# Altium integrated library ESQ-126-14-G-D-002.IntLib: 1 symbol
Pins are listed as number, name and electrical type; pins without a type are passive.

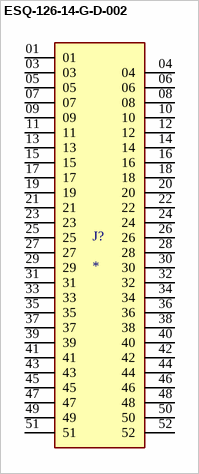
[diagram p0: symbol ESQ-126-14-G-D-002]

## ESQ-126-14-G-D-002
designator J?
MP: ESQ-126-14-G-D-002; Package: None; Price: None; Value: *; Availability: Unavailable
footprint SAMTEC_ESQ-126-14-G-D-002
pins: 01, 03, 04, 05, 06, 07, 08, 09, 10, 11, 12, 13, 14, 15, 16, 17, 18, 19, 20, 21, 22, 23, 24, 25, 26, 27, 28, 29, 30, 31, 32, 33, 34, 35, 36, 37, 38, 39, 40, 41, 42, 43, 44, 45, 46, 47, 48, 49, 50, 51, 52